# Altium schematic symbol library MSXII-Schematic Library.SchLib: 2 symbols
Pins are listed as number, name and electrical type; pins without a type are passive.

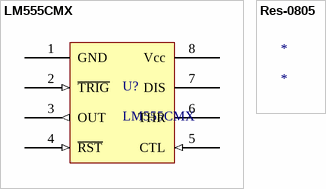
[diagram p0: symbols LM555CMX to Res-0805]

## LM555CMX
designator U?
IC OSC Single Timer 8-SOIC; Manufacturer: Fairchild Semiconductor; Manufacturer Part Number: LM555CMX; Digikey Part Number: LM555CMXFSCT-ND
footprint LM555CMX (SOIC, 8-Leads, Body 4.90x3.90mm, Pitch 1.27mm, IPC Medium Density)
footprint LM555CMX (SOIC, 8-Leads, Body 4.90x3.90mm, Pitch 1.27mm, IPC Medium Density)
pins: 1 GND (power), 2 ~{TRIG} (in), 3 OUT (out), 4 ~{RST} (in), 5 CTL (in), 6 THR, 7 DIS (power), 8 Vcc (power)

## Res-0805
designator *